# Altium footprint library Copy of PcbLib1.PcbLib: 1 footprints
Each footprint in its own frame and in the unit in brackets; x right, y up, seen from the top. Pads: shape width x height; smd on the part's side, far side on the other; paste and mask are expansions set on the pad; w line width, h text height; cw(c..) or ccw(c..) is an arc to the next point about the centre after c.
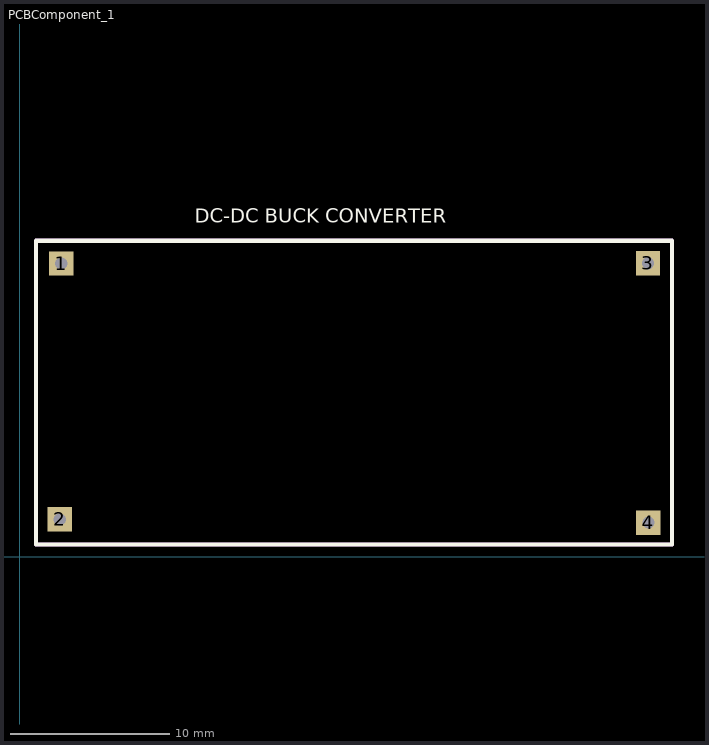
[diagram p0: the footprint, top view; thin cyan lines are the x and y axes]

## PCBComponent_1 [mil]
pads (4):
  rect 60x60 hole 30: 1(103,726) 2(99.47,93.12) 3(1555,727) 4(1556,85)
Top Overlay:
  lines w10: 40.2,31 40.2,782.61 1615,782.61 1615,31 40.2,31
  text "DC-DC BUCK CONVERTER" at 434,814.67 h60
Mechanical 1:
  lines w10: 40.2,31 1615,31 1615,782.61 40.2,782.61 40.2,31
3D body "LM2596 DC-DC Buck Converter Module.stp": height 532.32, standoff -5.08, extent 40.2,31 1615,782.61